# Altium schematic symbol library OPA.SchLib: 1 symbol
Pins are listed as number, name and electrical type; pins without a type are passive.

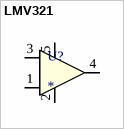
[diagram p0: symbol LMV321]

## LMV321
designator U?
footprint SOT23-5AM (SOT23, 5-Leads, Body 2.9x1.7mm, Pitch 0.95mm, Lead Span 2.8mm, IPC Low Density)
pins: 1 +IN, 2 V-, 3 -IN, 4 OUTPUT, 5 V+